# Altium footprint library Estacion_Meteorologica_Final.PcbLib: 55 footprints (part 1 of 4)
Each footprint in its own frame and in the unit in brackets; x right, y up, seen from the top. Pads: shape width x height; smd on the part's side, far side on the other; paste and mask are expansions set on the pad; w line width, h text height; cw(c..) or ccw(c..) is an arc to the next point about the centre after c.
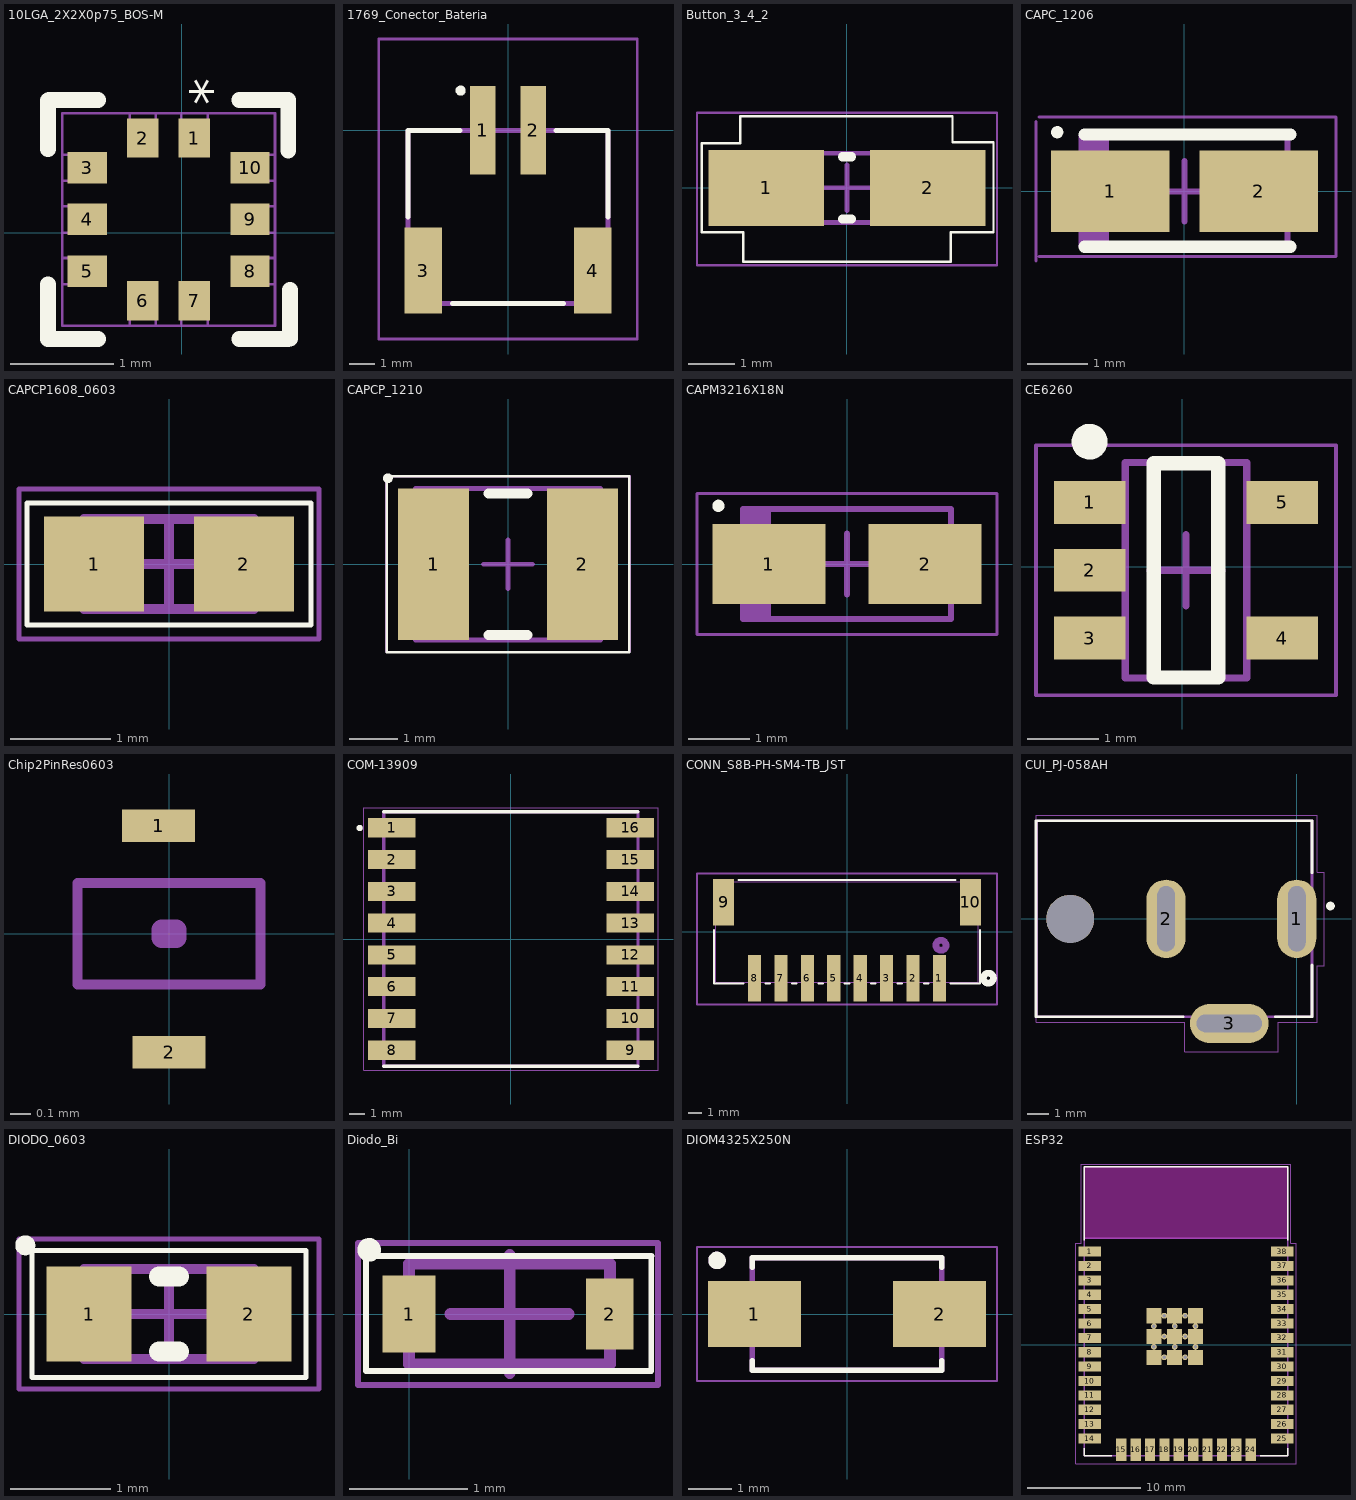
[diagram p0: the footprints below, top view; thin cyan lines are the x and y axes]

## 10LGA_2X2X0p75_BOS-M [mil]
pads (10):
  rect 12x15 smd paste+0 mask+0: 1(4.84,36) 2(-14.84,36) 6(-14.84,-26) 7(4.84,-26)
  rect 15x12 smd paste+0 mask+0: 3(-36,24.68) 4(-36,5) 5(-36,-14.69) 8(26,-14.69) 9(26,5) 10(26,24.68)
Top Overlay:
  lines w6: -50.9,-19.68 -50.9,-40.5 -31.92,-40.5 ; -50.9,31.73 -50.9,50.32 ; -50.5,50.5 -31.92,50.5 ; 21.92,-40.5 40.5,-40.5 ; 21.92,50.5 40.5,50.5 ; 40.55,31.13 40.55,49.71 ; 41.2,-40.43 41.2,-21.84
  text "*" at -3.1,58.7 h15
Mechanical 13:
  lines w1: -45.5,-35.5 -45.5,45.5 35.5,45.5 35.5,-35.5 -45.5,-35.5 ; -45.5,-19.68 -45.5,-9.69 -41.5,-9.69 -41.5,-19.68 -45.5,-19.68 ; -45.5,0 -45.5,10 -41.5,10 -41.5,0 -45.5,0 ; -45.5,19.68 -45.5,29.68 -41.5,29.68 -41.5,19.68 -45.5,19.68 ; -19.84,-35.5 -9.84,-35.5 -9.84,-31.5 -19.84,-31.5 -19.84,-35.5 ; -19.84,41.5 -9.84,41.5 -9.84,45.5 -19.84,45.5 -19.84,41.5 ; -0.16,-35.5 9.84,-35.5 9.84,-31.5 -0.16,-31.5 -0.16,-35.5 ; -0.16,41.5 9.84,41.5 9.84,45.5 -0.16,45.5 -0.16,41.5 ; 31.5,-19.68 35.5,-19.68 35.5,-9.69 31.5,-9.69 31.5,-19.68 ; 31.5,0 35.5,0 35.5,10 31.5,10 31.5,0 ; 31.5,19.68 35.5,19.68 35.5,29.68 31.5,29.68 31.5,19.68
3D body "10LGA_2X2X0p75_BOS.step": height 32.09, standoff 0, extent -45.51,-35.51 35.51,45.51

## 1769_Conector_Bateria [mm]
pads (4):
  rect 1x3.5 smd: 1(-1,0) 2(1,0)
  rect 1.5x3.4 smd: 3(-3.35,-5.55) 4(3.35,-5.55)
Top Overlay:
  lines w0.2: -3.95,-3.425 -3.95,0 -1.9,0 ; -2.196,-6.849 2.196,-6.849 ; -1.774,1.545 cw(c-1.872,1.569) -1.972,1.569 cw(c-1.872,1.569) -1.772,1.569 ; 1.9,0 3.95,0 3.95,-3.425
Mechanical 15:
  lines w0.2: -3.95,-6.849 3.95,-6.849 3.95,0 -3.95,0 -3.95,-6.849
Mechanical 20:
  lines w0.1: -5.1,-8.25 5.1,-8.25 5.1,3.608 -5.1,3.608 -5.1,-8.25
3D body "1769.stp": height 4.8, standoff 0, extent -3.952,-7.569 3.948,1.031

## Button_3_4_2 [mm]
height 0.5
pads (2):
  rect 2.5x1.65 smd: 1(-1.75,0) 2(1.75,0)
Top Overlay:
  lines w0.05: -3.15,-0.965 -3.15,0.965 -2.311,0.965 -2.311,1.549 2.286,1.549 2.286,0.991 3.175,0.991 3.175,0.584 3.175,-0.965 2.248,-0.965 2.248,-1.6 -2.248,-1.6 -2.248,-0.965 -3.137,-0.965
  lines w0.2: -0.1,-0.675 0.1,-0.675 ; -0.1,0.675 0.1,0.675
Mechanical 13:
  lines w0.1: -2.6,-0.75 2.6,-0.75 2.6,0.75 -2.6,0.75 -2.6,-0.75
Mechanical 15:
  lines w0.05: -3.25,-1.676 3.25,-1.676 3.25,1.626 -3.25,1.626 -3.25,-1.676
  lines w0.1: -0.5,0 0.5,0 ; 0,-0.5 0,0.5
3D body: height 0.5, standoff 0, extent 0.7,-0.75 2.6,0.75
3D body: height 0.5, standoff 0, extent -2.6,-0.75 -0.7,0.75
3D body "User Library-Sw Tact TL1015.STEP": height 1.8, standoff 0, extent -2.2,-1.524 2.2,1.476

## CAPC_1206 [mm] "Molded Capacitor, 2-Leads, Body 3.20x1.60mm, IPC Medium Density"
height 1.4
pads (2):
  rect 1.95x1.35 smd: 1(-1.225,0) 2(1.225,0)
Top Overlay:
  circle w0.1: c-2.1,0.975 r0.05
  lines w0.2: -1.651,-0.914 1.749,-0.914 ; -1.651,0.94 1.749,0.94
Mechanical 13:
  rectangle: -1.7,-0.9 -1.243,0.9
  lines w0.1: -1.7,-0.9 -1.7,0.9 1.7,0.9 1.7,-0.9 -1.7,-0.9
Mechanical 15:
  lines w0.05: -2.45,-1.15 -2.45,1.15 ; -2.399,-1.074 2.501,-1.074 2.501,1.226 -2.399,1.226
  lines w0.1: -0.5,0 0.5,0 ; 0,-0.5 0,0.5
3D body "TAJA106K016RNJV.STEP": height 1.8, standoff 0, extent -1.549,-0.8 1.651,0.8

## CAPCP1608_0603 [mm] "Chip Capacitor, 2-Leads, Body 1.60x0.80mm, IPC Medium Density"
height 0.9
pads (2):
  rect 1x0.95 smd: 1(-0.75,0) 2(0.75,0)
Top Overlay:
  lines w0.05: -1.422,-0.61 -1.422,0.61 1.422,0.61 1.422,-0.61 -1.422,-0.61
Mechanical 13:
  lines w0.1: -0.85,-0.45 -0.85,0.45 0.85,0.45 0.85,-0.45 -0.85,-0.45
Mechanical 15:
  lines w0.05: -1.5,-0.75 -1.5,0.75 1.5,0.75 1.5,-0.75 -1.5,-0.75
  lines w0.1: -0.45,0 0.45,0 ; 0,-0.45 0,0.45
3D body "Cap 0603.stp": height 0.9, standoff 0, extent -0.8,-0.4 0.8,0.4

## CAPCP_1210 [mm] "Chip Capacitor, 2-Leads, Body 3.60x2.90mm, IPC Medium Density"
height 2.3
pads (2):
  rect 1.45x3.1 smd: 1(-1.525,0) 2(1.525,0)
Top Overlay:
  circle w0.1: c-2.462,1.762 r0.05
  lines w0.05: -2.489,-1.803 -2.489,1.735 -2.439,1.735 -2.371,1.803 2.489,1.803 2.489,-1.803 -2.489,-1.803
  lines w0.2: -0.4,-1.45 0.4,-1.45 ; -0.4,1.45 0.4,1.45
Mechanical 13:
  lines w0.1: -1.9,-1.55 -1.9,1.55 1.9,1.55 1.9,-1.55 -1.9,-1.55
Mechanical 15:
  lines w0.05: -2.5,-1.8 -2.5,1.8 2.5,1.8 2.5,-1.8 -2.5,-1.8
  lines w0.1: -0.5,0 0.5,0 ; 0,-0.5 0,0.5
3D body "cap 1210.stp": height 1.7, standoff 0, extent -1.727,-1.25 1.473,1.25

## CAPM3216X18N [mm]
height 1.4
pads (2):
  rect 1.85x1.3 smd: 1(-1.275,0) 2(1.275,0)
Top Overlay:
  circle w0.1: c-2.1,0.95 r0.05
Mechanical 13:
  rectangle: -1.7,-0.9 -1.243,0.9
  lines w0.1: -1.7,-0.9 -1.7,0.9 1.7,0.9 1.7,-0.9 -1.7,-0.9
Mechanical 15:
  lines w0.05: -2.45,-1.15 -2.45,1.15 2.45,1.15 2.45,-1.15 -2.45,-1.15
  lines w0.1: -0.5,0 0.5,0 ; 0,-0.5 0,0.5
3D body "CAPM3216X18N.step": height 1.4, standoff 0, extent -1.92,-0.9 1.92,0.9

## CE6260 [mm]
pads (5):
  rect 1x0.6 smd: 1(-1.299,0.899) 2(-1.299,-0.051) 3(-1.299,-1.001) 4(1.401,-1.001) 5(1.401,0.899)
Top Overlay:
  circle w0.25: c-1.299,1.749 r0.125
  lines w0.2: -0.399,-1.551 -0.399,1.449 0.501,1.449 0.501,-1.551 -0.399,-1.551
Mechanical 13:
  lines w0.1: -0.799,-1.561 0.901,-1.561 0.901,1.459 -0.799,1.459 -0.799,-1.561
Mechanical 15:
  lines w0.05: -2.049,-1.801 2.151,-1.801 2.151,1.699 -2.049,1.699 -2.049,-1.801
  lines w0.1: -0.449,-0.051 0.551,-0.051 ; 0.051,-0.551 0.051,0.449
3D body "TP4054-42-SOT25-R.stp": height 1, standoff 0, extent -1.349,-1.501 1.451,1.399

## Chip2PinRes0603 [mm]
height 0.03
pads (2):
  rect 0.36x0.16 smd: 1(-0.051,0.533) 2(0,-0.584)
Mechanical 13:
  lines w0.1: -0.035,-0.02 -0.035,0.02 0.035,0.02 0.035,-0.02 -0.035,-0.02
Mechanical 15:
  lines w0.05: -0.45,-0.25 -0.45,0.25 0.45,0.25 0.45,-0.25 -0.45,-0.25
  lines w0.1: -0.02,0 0.02,0 ; 0,-0.02 0,0.02
3D body: height 0.03, standoff 0, extent -0.005,-0.02 0.005,0.02
3D body: height 0.03, standoff 0, extent -0.035,-0.02 -0.005,0.02
3D body: height 0.03, standoff 0, extent 0.005,-0.02 0.035,0.02

## COM-13909 [mm]
pads (16):
  rect 3x1.2 smd: 1(-7.5,7) 2(-7.5,5) 3(-7.5,3) 4(-7.5,1) 5(-7.5,-1) 6(-7.5,-3) 7(-7.5,-5) 8(-7.5,-7) 9(7.5,-7) 10(7.5,-5) 11(7.5,-3) 12(7.5,-1) 13(7.5,1) 14(7.5,3) 15(7.5,5) 16(7.5,7)
Top Overlay:
  circle w0.2: c-9.525,6.985 r0.1
  lines w0.203: -8,-8 8,-8 ; -8,8 8,8
Mechanical 13:
  lines w0.203: -8,-8 -8,8 8,8 8,-8 -8,-8
Mechanical 15:
  lines w0.05: -9.25,-8.25 9.25,-8.25 9.25,8.25 -9.25,8.25 -9.25,-8.25
3D body "COM-13909--3DModel-STEP-46669.STEP": height 1.8, standoff 0, extent -8.008,-8.018 7.992,7.982

## CONN_S8B-PH-SM4-TB_JST [mil]
pads (10):
  rect 39x138 smd paste+0 mask+0: 1(275.59,-138.01) 2(196.85,-138.01) 3(118.11,-138.01) 4(39.37,-138.01) 5(-39.37,-138.01) 6(-118.11,-138.01) 7(-196.85,-138.01) 8(-275.59,-138.01)
  rect 63x138 smd paste-69 mask-69: 9(-368.11,88.37) 10(368.11,88.37)
Top Overlay:
  circle w20: c421.5,-138.01 r15
  lines w6: -396.5,6.27 -396.5,-154.5 -308.19,-154.5 ; -323.51,154.5 323.51,154.5 ; -242.99,-154.5 -229.45,-154.5 ; -164.25,-154.5 -150.71,-154.5 ; -85.51,-154.5 -71.97,-154.5 ; -6.77,-154.5 6.77,-154.5 ; 71.97,-154.5 85.51,-154.5 ; 150.71,-154.5 164.25,-154.5 ; 229.45,-154.5 242.99,-154.5 ; 308.19,-154.5 396.5,-154.5 396.5,6.27
Bottom Overlay:
  circle w20: c421.5,-138.01 r15
Mechanical 13:
  circle w20: c280,-40 r15
  lines w1: -391.5,-149.5 391.5,-149.5 391.5,149.5 -391.5,149.5 -391.5,-149.5
Mechanical 15:
  lines w6: -447.11,-217.01 -447.11,174.5 447.11,174.5 447.11,-217.01 -447.11,-217.01
3D body "S8B-PH-SM4-TB-LF--SN---3DModel-STEP-56544.STEP": height 216.54, standoff 0, extent -391.63,-176.69 391.83,161.89

## CUI_PJ-058AH [mm]
height 11.5
pads (4):
  oval 1.8x3.6 hole 0.8 slot 3 at 90 deg: 1(0,0) 2(-6,0)
  oval 3.6x1.8 hole 0.8 slot 3 at 0 deg: 3(-3.1,-4.8)
  round 2.2 hole 2.2 unplated: ""(-10.4,0)
Top Overlay:
  circle w0.2: c1.544,0.589 r0.1
  lines w0.127: -5.22,-4.5 -11.971,-4.5 -11.971,4.5 0.7,4.5 0.7,2.12 ; -0.98,-4.5 0.7,-4.5 0.7,-2.12
Mechanical 13:
  lines w0.127: -11.953,-4.5 -11.953,4.5 0.7,4.5 0.7,-4.5 -11.953,-4.5
Mechanical 15:
  lines w0.05: -11.974,-4.75 -11.974,4.75 0.95,4.75 0.95,2.15 1.25,2.15 1.25,-2.15 0.95,-2.15 0.95,-4.75 -0.85,-4.75 -0.85,-6.1 -5.15,-6.1 -5.15,-4.75 -11.974,-4.75
3D body "Same_Sky_PJ-058AH.step": height 11, standoff -3.99, extent -14.405,-4.957 0.795,4.493

## DIODO_0603 [mm]
height 0.5
pads (2):
  rect 0.85x0.95 smd: 1(-0.8,0) 2(0.8,0)
Top Overlay:
  circle w0.1: c-1.437,0.687 r0.05
  lines w0.05: -1.372,0.61 -1.372,-0.635 1.372,-0.635 1.372,0.635 -1.346,0.635
  lines w0.2: -0.1,-0.375 0.1,-0.375 ; -0.1,0.375 0.1,0.375
Mechanical 13:
  lines w0.1: -0.85,-0.45 0.85,-0.45 0.85,0.45 -0.85,0.45 -0.85,-0.45
Mechanical 15:
  lines w0.05: -1.5,-0.75 -1.5,0.75 1.5,0.75 1.5,-0.75 -1.5,-0.75
  lines w0.1: -0.45,0 0.45,0 ; 0,-0.45 0,0.45
3D body "Led.stp": height 0.8, standoff 0, extent -0.8,-0.425 0.8,0.425

## Diodo_Bi [mm] "SODFL, 2-Leads, Body 0.80x1.60mm, IPC Medium Density"
height 0.61
pads (2):
  rect 0.45x0.65 smd: 1(0,0)
  rect 0.4x0.6 smd: 2(1.7,0)
Top Overlay:
  circle w0.1: c-0.338,0.543 r0.05
  lines w0.05: 2.051,0.49 2.051,-0.483 -0.365,-0.483 -0.365,0.49 2.054,0.49
Mechanical 13:
  lines w0.1: 0,-0.425 0,0.425 1.702,0.425 1.702,-0.425 0,-0.425
Mechanical 15:
  lines w0.05: -0.432,-0.6 -0.432,0.6 2.108,0.6 2.108,-0.6 -0.432,-0.6
  lines w0.1: 0.352,0 1.352,0 ; 0.852,-0.5 0.852,0.5
3D body "SODFL160X61-2N.step": height 0.61, standoff 0, extent 0.013,-0.425 1.613,0.425

## DIOM4325X250N [mm]
pads (2):
  rect 2.12x1.5 smd: 1(-2.115,0) 2(2.115,0)
Top Overlay:
  circle w0.2: c-2.968,1.223 r0.1
  lines w0.127: -2.165,-1.07 -2.165,-1.28 2.165,-1.28 2.165,-1.07 ; -2.165,1.07 -2.165,1.28 2.165,1.28 2.165,1.07
Mechanical 13:
  circle w0.2: c-2.968,1.223 r0.1
  lines w0.127: -2.165,-1.28 -2.165,1.28 2.165,1.28 2.165,-1.28 -2.165,-1.28
Mechanical 15:
  lines w0.05: -3.425,-1.53 -3.425,1.53 3.425,1.53 3.425,-1.53 -3.425,-1.53
3D body "step_temp.STEP": height 2.5, standoff 0, extent -2.57,-1.28 2.57,1.28

## ESP32 [mm]
pads (59):
  rect 2x0.9 smd: 1(11.972,8.206) 2(11.972,6.936) 3(11.972,5.666) 4(11.972,4.396) 5(11.972,3.126) 6(11.972,1.856) 7(11.972,0.586) 8(11.972,-0.684) 9(11.972,-1.954) 10(11.972,-3.224) 11(11.972,-4.494) 12(11.972,-5.764) 13(11.972,-7.034) 14(11.972,-8.304) 25(28.972,-8.304) 26(28.972,-7.034) 27(28.972,-5.764) 28(28.972,-4.494) 29(28.972,-3.224) 30(28.972,-1.954) 31(28.972,-0.684) 32(28.972,0.586) 33(28.972,1.856) 34(28.972,3.126) 35(28.972,4.396) 36(28.972,5.666) 37(28.972,6.936) 38(28.972,8.206)
  rect 0.9x2 smd: 15(14.757,-9.304) 16(16.027,-9.304) 17(17.297,-9.304) 18(18.567,-9.304) 19(19.837,-9.304) 20(21.107,-9.304) 21(22.377,-9.304) 22(23.647,-9.304) 23(24.917,-9.304) 24(26.187,-9.304)
  rect 1.33x1.33 smd: 39_1(17.637,2.541) 39_2(19.472,2.541) 39_3(21.307,2.541) 39_4(17.637,0.706) 39_5(19.472,0.706) 39_6(21.307,0.706) 39_7(17.637,-1.129) 39_8(19.472,-1.129) 39_9(21.307,-1.129)
  round 0.508 hole 0.3: 39_10(18.555,2.541) 39_11(20.39,2.541) 39_12(17.637,1.624) 39_13(19.472,1.624) 39_14(21.307,1.624) 39_15(18.555,0.706) 39_16(20.39,0.706) 39_17(17.637,-0.211) 39_18(19.472,-0.211) 39_19(21.307,-0.211) 39_20(18.555,-1.129) 39_21(20.39,-1.129)
Top Overlay:
  lines w0.127: 11.472,-9.154 11.472,-9.804 13.922,-9.804 ; 11.472,9.196 11.472,15.696 29.472,15.696 29.472,9.196 ; 27.022,-9.804 29.472,-9.804 29.472,-9.154
Keep-Out Layer:
  region: 29.472,9.396 11.472,9.396 11.472,15.696 29.472,15.696
Mechanical 13:
  lines w0.127: 11.472,9.396 11.472,-9.804 29.472,-9.804 29.472,9.396 ; 11.472,9.396 11.472,15.696 29.472,15.696 29.472,9.396 ; 11.472,9.396 29.472,9.396
  text "ANTENNA" at 14.472,11.946 h1.78
Mechanical 15:
  lines w0.05: 10.722,-10.554 30.222,-10.554 30.222,8.946 29.722,8.946 29.722,15.946 11.222,15.946 11.222,8.946 10.722,8.946 10.722,-10.554
3D body "step_temp.STEP": height 3.25, standoff 0, extent 11.472,-9.804 29.472,15.696